# Altium schematic symbol library DT13-12P-G003.SchLib: 1 symbol
Pins are listed as number, name and electrical type; pins without a type are passive.

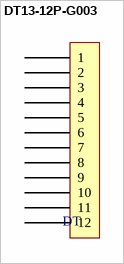
[diagram p0: symbol DT13-12P-G003]

## DT13-12P-G003
designator DT  (value not drawn)
PCB Mount Header, Right Angle, Wire-to-Board, 12 Position, 1.45 mm [.175 in] Centerline, Fully Shrouded, Gold, Through Hole - Solder, DEUTSCH DT
footprint DT13-12P-G003 (Connector)
pins: 1, 2, 3, 4, 5, 6, 7, 8, 9, 10, 11, 12